# Altium schematic symbol library Osciladores.SchLib: 2 symbols
Pins are listed as number, name and electrical type; pins without a type are passive.

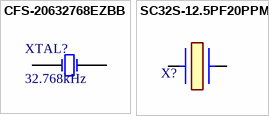
[diagram p0: symbols CFS-20632768EZBB to SC32S-12.5PF20PPM]

## CFS-20632768EZBB
designator XTAL?, comment 32.768kHz
CRYSTAL 32.7680KHZ 6PF TH
footprint CFS-20632768EZBB
pins: 1 OSC1, 2 OSC2

## SC32S-12.5PF20PPM
designator X?, comment 32,768 kHz  (value not drawn)
Cristal Oscilador 32.768 kHz, 12.5pF; Manufacturer: Seiko; Manufacturer Part Number: SC32S-12.5PF20PPM; Category: Cristal Oscilador; Value: 32,768 kHz; Datasheet: https://datasheet.lcsc.com/lcsc/1811151435_Seiko-SC-32S32-768kHz20PPM12-5pF_C97606.pdf
footprint SC-32S32.768kHz20PPM12.5pF
pins: 1, 2